# Altium footprint library PcbLib1.PcbLib: 14 footprints
Each footprint in its own frame and in the unit in brackets; x right, y up, seen from the top. Pads: shape width x height; smd on the part's side, far side on the other; paste and mask are expansions set on the pad; w line width, h text height; cw(c..) or ccw(c..) is an arc to the next point about the centre after c.
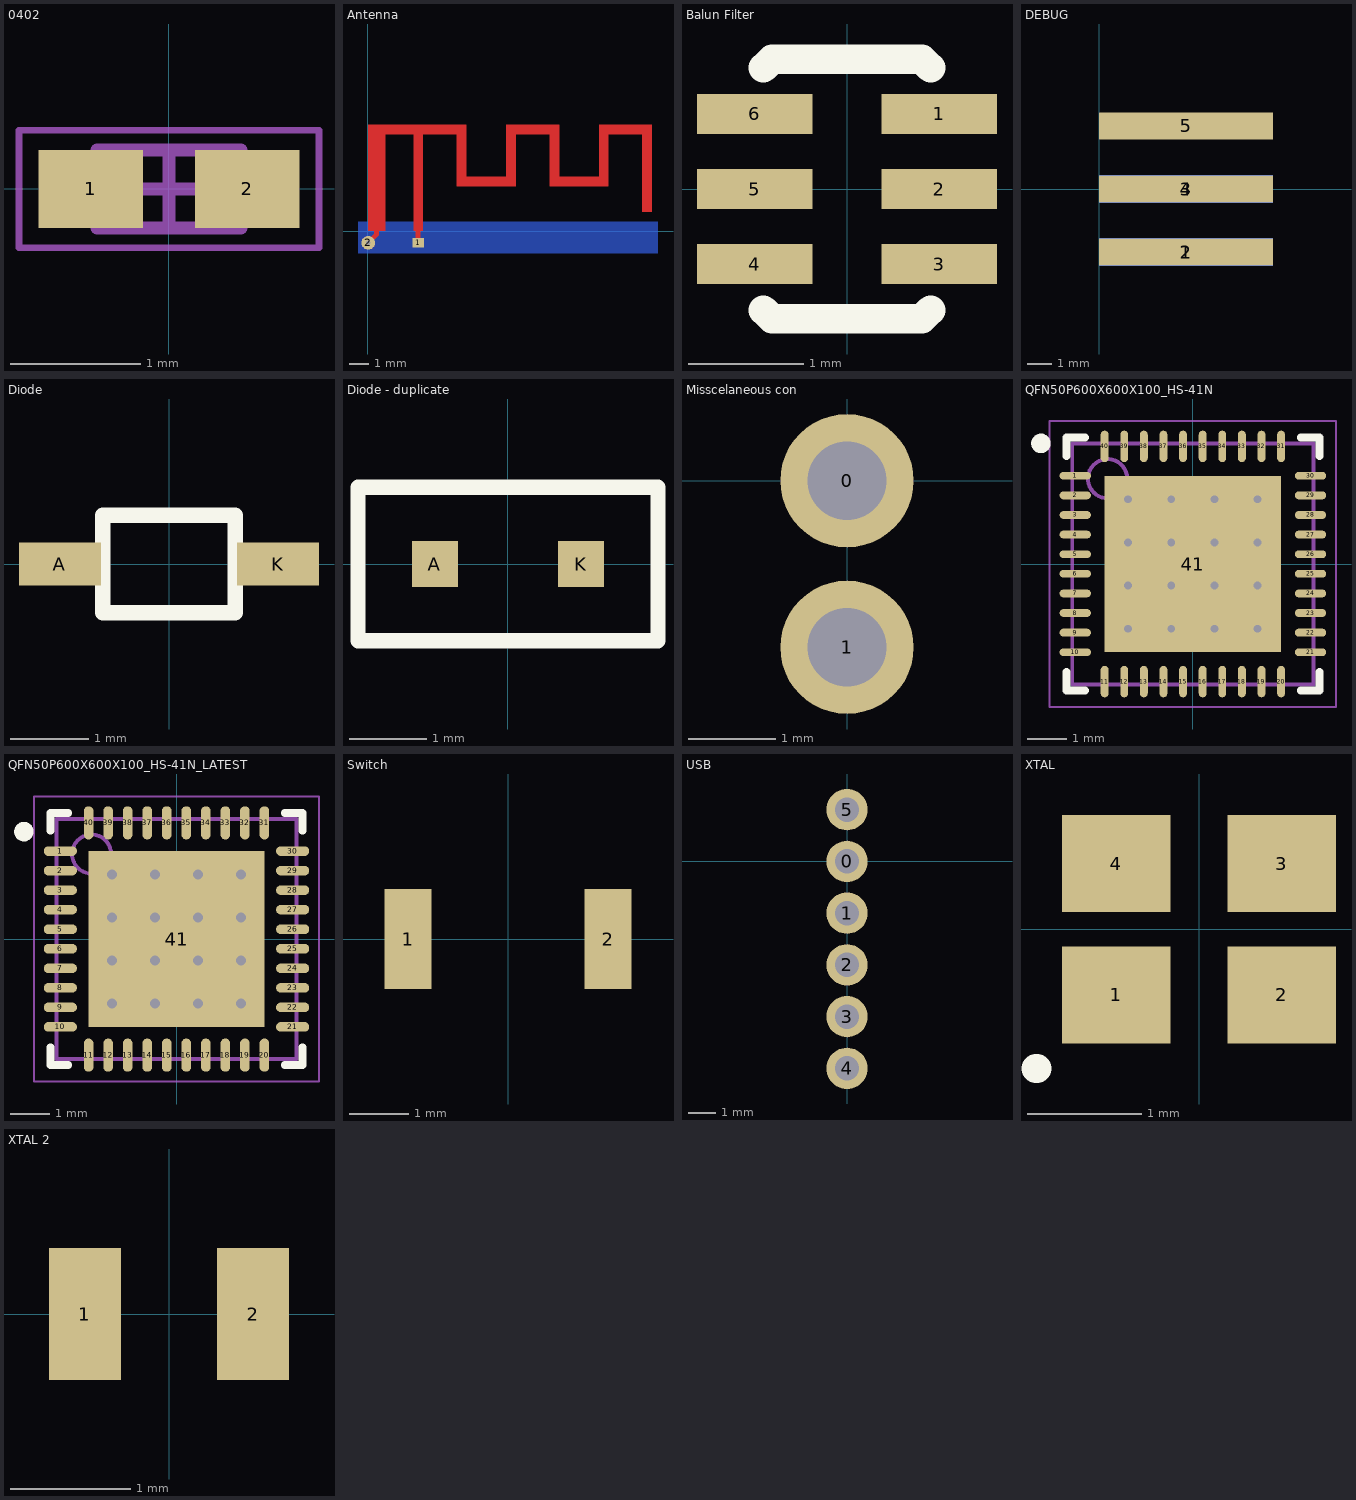
[diagram p0: the footprints below, top view; thin cyan lines are the x and y axes]

## 0402 [mm] "Chip Capacitor, 2-Leads, Body 1,00x0,50mm, IPC Medium Density"
height 0.6
pads (2):
  rect 0.8x0.6 smd: 1(-0.6,0) 2(0.6,0)
Mechanical 13:
  lines w0.1: -0.55,-0.3 0.55,-0.3 0.55,0.3 -0.55,0.3 -0.55,-0.3
Mechanical 15:
  lines w0.05: -1.15,-0.45 1.15,-0.45 1.15,0.45 -1.15,0.45 -1.15,-0.45
  lines w0.1: -0.3,0 0.3,0 ; 0,-0.3 0,0.3
3D body: height 0.6, standoff 0, extent 0.3,-0.3 0.55,0.3
3D body: height 0.6, standoff 0, extent -0.55,-0.3 -0.3,0.3
3D body: height 0.6, standoff 0, extent -0.3,-0.3 0.3,0.3

## Antenna [mm]
pads (2):
  rect 0.6x0.5 smd: 1(2.55,-0.59)
  round 0.7 hole 0.25 mask+0.05: 2(0.02,-0.59)
Top Layer:
  rectangle: 11.7,2.26 12.2,4.94
  rectangle: 9.2,2.26 9.7,4.93
  rectangle: 4.5,2.26 5,4.93
  rectangle: 0,0 0.9,4.93
  rectangle: 0,4.9 5,5.4
  rectangle: 2.3,0 2.8,4.93
  rectangle: 4.986,2.26 7.016,2.76
  rectangle: 7,2.26 7.5,4.93
  rectangle: 7,4.9 9.7,5.4
  rectangle: 9.668,2.26 11.725,2.76
  rectangle: 11.7,4.9 14.4,5.4
  rectangle: 13.9,0.96 14.4,4.94
  lines w0.254: 0.02,-0.59 0.43,-0.18 0.43,0 ; 2.55,-0.59 2.55,0
Bottom Layer:
  rectangle: -0.5,-1.13 14.7,0.5

## Balun Filter [mm]
height 0.7
pads (6):
  rect 1x0.35 smd: 1(0.8,0.65) 2(0.8,0) 3(0.8,-0.65) 4(-0.8,-0.65) 5(-0.8,0) 6(-0.8,0.65)
Top Overlay:
  lines w0.254: -0.725,-1.05 -0.65,-1.125 -0.475,-1.125 0.65,-1.125 0.725,-1.05 ; -0.725,1.05 -0.65,1.125 0.475,1.125 0.65,1.125 0.725,1.05
  text ".Designator" at -0.625,-1.475 h1.52
3D body: height 0.7, standoff 0, extent -0.6,-1 0.6,1

## DEBUG [mm]
pads (5):
  rect 7x1.1 smd: 1(3.5,-2.54) 3(3.5,0) 5(3.5,2.54)
  rect 7x1.1 smd far side: 2(3.5,-2.54) 4(3.5,0)

## Diode [mm]
pads (2):
  rect 1.05x0.55 smd: A(-1.4,0) K(1.4,0)
Top Overlay:
  lines w0.2: -0.85,-0.625 0.85,-0.625 0.85,0.625 -0.85,0.625 -0.85,-0.625

## Diode - duplicate [mm]
pads (2):
  rect 0.6x0.6 smd: A(-0.95,0) K(0.95,0)
Top Overlay:
  lines w0.2: -1.95,-1 -1.95,0 -1.95,1 1.95,1 1.95,-1 -1.95,-1

## Misscelaneous con [mil]
pads (2):
  round 60 hole 35.43: 0(0,0) 1(0,-75)

## PCBComponent_1 [mm]

## QFN50P600X600X100_HS-41N [mm] "QFN, 40-Leads, Body 6,00x6,00mm, Pitch 0,50mm, Thermal Pad 4,50x4,50mm, IPC Medium Density"
height 1
pads (41):
  oval 0.8x0.2 smd: 1(-3,2.25) 2(-3,1.75) 3(-3,1.25) 4(-3,0.75) 5(-3,0.25) 6(-3,-0.25) 7(-3,-0.75) 8(-3,-1.25) 9(-3,-1.75) 10(-3,-2.25) 21(3,-2.25) 22(3,-1.75) 23(3,-1.25) 24(3,-0.75) 25(3,-0.25) 26(3,0.25) 27(3,0.75) 28(3,1.25) 29(3,1.75) 30(3,2.25)
  oval 0.2x0.8 smd: 11(-2.25,-3) 12(-1.75,-3) 13(-1.25,-3) 14(-0.75,-3) 15(-0.25,-3) 16(0.25,-3) 17(0.75,-3) 18(1.25,-3) 19(1.75,-3) 20(2.25,-3) 31(2.25,3) 32(1.75,3) 33(1.25,3) 34(0.75,3) 35(0.25,3) 36(-0.25,3) 37(-0.75,3) 38(-1.25,3) 39(-1.75,3) 40(-2.25,3)
  rect 4.5x4.5 smd: 41(0,0)
via -1.65,1.65 diameter 0.5 hole 0.2
via -0.55,1.65 diameter 0.5 hole 0.2
via 0.55,1.65 diameter 0.5 hole 0.2
via 1.65,1.65 diameter 0.5 hole 0.2
via -1.65,0.55 diameter 0.5 hole 0.2
via -0.55,0.55 diameter 0.5 hole 0.2
via 0.55,0.55 diameter 0.5 hole 0.2
via 1.65,0.55 diameter 0.5 hole 0.2
via -1.65,-0.55 diameter 0.5 hole 0.2
via -0.55,-0.55 diameter 0.5 hole 0.2
via 0.55,-0.55 diameter 0.5 hole 0.2
via 1.65,-0.55 diameter 0.5 hole 0.2
via -1.65,-1.65 diameter 0.5 hole 0.2
via -0.55,-1.65 diameter 0.5 hole 0.2
via 0.55,-1.65 diameter 0.5 hole 0.2
via 1.65,-1.65 diameter 0.5 hole 0.2
Top Overlay:
  circle w0.25: c-3.875,3.075 r0.125
  lines w0.2: -3.225,-2.75 -3.225,-3.225 -2.75,-3.225 ; -3.225,2.75 -3.225,3.225 -2.75,3.225 ; 2.75,-3.225 3.225,-3.225 3.225,-2.75 ; 2.75,3.225 3.225,3.225 3.225,2.75
Mechanical 13:
  circle w0.1: c-2.175,2.175 r0.5
  lines w0.1: -3.075,-3.075 -3.075,3.075 3.075,3.075 3.075,-3.075 -3.075,-3.075
Mechanical 15:
  lines w0.05: -3.65,-3.65 -3.65,3.65 3.65,3.65 3.65,-3.65 -3.65,-3.65
  lines w0.1: -0.5,0 0.5,0 ; 0,-0.5 0,0.5
3D body: height 1, standoff 0, extent -3.075,-3.075 3.075,3.075
3D body: height 1, standoff 0, extent -3.125,-3.125 3.125,3.125

## QFN50P600X600X100_HS-41N_LATEST [mm] "QFN, 40-Leads, Body 6,00x6,00mm, Pitch 0,50mm, Thermal Pad 4,50x4,50mm, IPC Medium Density"
height 1
pads (41):
  oval 0.85x0.25 smd: 1(-2.975,2.25) 2(-2.975,1.75) 3(-2.975,1.25) 4(-2.975,0.75) 5(-2.975,0.25) 6(-2.975,-0.25) 7(-2.975,-0.75) 8(-2.975,-1.25) 9(-2.975,-1.75) 10(-2.975,-2.25) 21(2.975,-2.25) 22(2.975,-1.75) 23(2.975,-1.25) 24(2.975,-0.75) 25(2.975,-0.25) 26(2.975,0.25) 27(2.975,0.75) 28(2.975,1.25) 29(2.975,1.75) 30(2.975,2.25)
  oval 0.25x0.85 smd: 11(-2.25,-2.975) 12(-1.75,-2.975) 13(-1.25,-2.975) 14(-0.75,-2.975) 15(-0.25,-2.975) 16(0.25,-2.975) 17(0.75,-2.975) 18(1.25,-2.975) 19(1.75,-2.975) 20(2.25,-2.975) 31(2.25,2.975) 32(1.75,2.975) 33(1.25,2.975) 34(0.75,2.975) 35(0.25,2.975) 36(-0.25,2.975) 37(-0.75,2.975) 38(-1.25,2.975) 39(-1.75,2.975) 40(-2.25,2.975)
  rect 4.5x4.5 smd: 41(0,0)
via 1.65,-1.65 diameter 0.7 hole 0.25
via 0.55,-1.65 diameter 0.7 hole 0.25
via -0.55,-1.65 diameter 0.7 hole 0.25
via -1.65,-1.65 diameter 0.7 hole 0.25
via 1.65,-0.55 diameter 0.7 hole 0.25
via 0.55,-0.55 diameter 0.7 hole 0.25
via -0.55,-0.55 diameter 0.7 hole 0.25
via -1.65,-0.55 diameter 0.7 hole 0.25
via 1.65,0.55 diameter 0.7 hole 0.25
via 0.55,0.55 diameter 0.7 hole 0.25
via -0.55,0.55 diameter 0.7 hole 0.25
via -1.65,0.55 diameter 0.7 hole 0.25
via 1.65,1.65 diameter 0.7 hole 0.25
via 0.55,1.65 diameter 0.7 hole 0.25
via -0.55,1.65 diameter 0.7 hole 0.25
via -1.65,1.65 diameter 0.7 hole 0.25
Top Overlay:
  circle w0.25: c-3.91,2.75 r0.125
  lines w0.2: -3.225,-2.775 -3.225,-3.225 -2.775,-3.225 ; -3.225,2.775 -3.225,3.225 -2.775,3.225 ; 2.775,-3.225 3.225,-3.225 3.225,-2.775 ; 2.775,3.225 3.225,3.225 3.225,2.775
Mechanical 13:
  circle w0.1: c-2.175,2.175 r0.5
  lines w0.1: -3.075,-3.075 3.075,-3.075 3.075,3.075 -3.075,3.075 -3.075,-3.075
Mechanical 15:
  lines w0.05: -3.65,-3.65 3.65,-3.65 3.65,3.65 -3.65,3.65 -3.65,-3.65
  lines w0.1: -0.5,0 0.5,0 ; 0,-0.5 0,0.5
3D body: height 1, standoff 0, extent -3.075,-3.075 3.075,3.075

## Switch [mm]
pads (2):
  rect 0.8x1.7 smd: 1(-1.7,0) 2(1.7,0)

## USB [mil]
pads (6):
  round 60 hole 35.43: 0(0,0) 1(0,-75) 2(0,-150) 3(0,-225) 4(0,-300) 5(0,75)

## XTAL [mm] "5 x 3.2 mm SMD"
height 1
pads (4):
  rect 0.95x0.85 smd: 1(-0.725,-0.575) 2(0.725,-0.575) 3(0.725,0.575) 4(-0.725,0.575)
Top Overlay:
  lines w0.254: -1.43,-1.22 -1.42,-1.22

## XTAL 2 [mm]
pads (2):
  rect 0.6x1.1 smd: 1(-0.7,0) 2(0.7,0)
3D body: height 0.6, standoff 0, extent -1.016,-0.635 1.016,0.635